# Altium footprint library Res_Yageo_MF0207FTE52-10K_eec_MFG.PcbLib: 1 footprints
Each footprint in its own frame and in the unit in brackets; x right, y up, seen from the top. Pads: shape width x height; smd on the part's side, far side on the other; paste and mask are expansions set on the pad; w line width, h text height; cw(c..) or ccw(c..) is an arc to the next point about the centre after c.
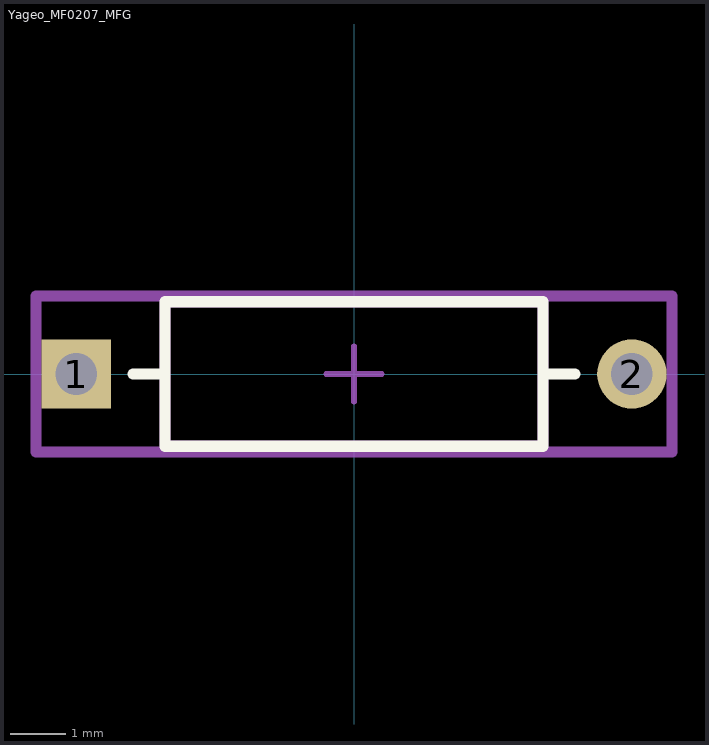
[diagram p0: the footprint, top view; thin cyan lines are the x and y axes]

## Yageo_MF0207_MFG [mm]
pads (2):
  rect 1.25x1.25 hole 0.75 paste-1000 mask+0: 1(-5,0)
  round 1.25 hole 0.75 paste-1000 mask+0: 2(5,0)
Top Overlay:
  lines w0.2: -3.975,0 -3.4,0 ; 3.4,0 3.975,0 ; -3.4,-1.3 3.4,-1.3 3.4,1.3 -3.4,1.3 -3.4,-1.3
Mechanical 10:
  lines w0.2: -5.725,-1.4 5.725,-1.4 5.725,1.4 -5.725,1.4 -5.725,-1.4
  text ".Designator" at 0,0.188 h1
Mechanical 12:
  lines w0.2: -3.4,-1.3 3.4,-1.3 3.4,1.3 -3.4,1.3 -3.4,-1.3
Mechanical 15:
  lines w0.1: -0.5,0 0.5,0 ; 0,-0.5 0,0.5
  lines w0.2: -5.725,-1.4 5.725,-1.4 5.725,1.4 -5.725,1.4 -5.725,-1.4
3D body "Res_Yageo_MF0207FTE52-10K_eec.STEP": height 0.25, standoff 0, extent -5.725,-1.4 5.725,1.4